# Altium footprint library Connector.PcbLib: 18 footprints (part 1 of 2)
Each footprint in its own frame and in the unit in brackets; x right, y up, seen from the top. Pads: shape width x height; smd on the part's side, far side on the other; paste and mask are expansions set on the pad; w line width, h text height; cw(c..) or ccw(c..) is an arc to the next point about the centre after c.
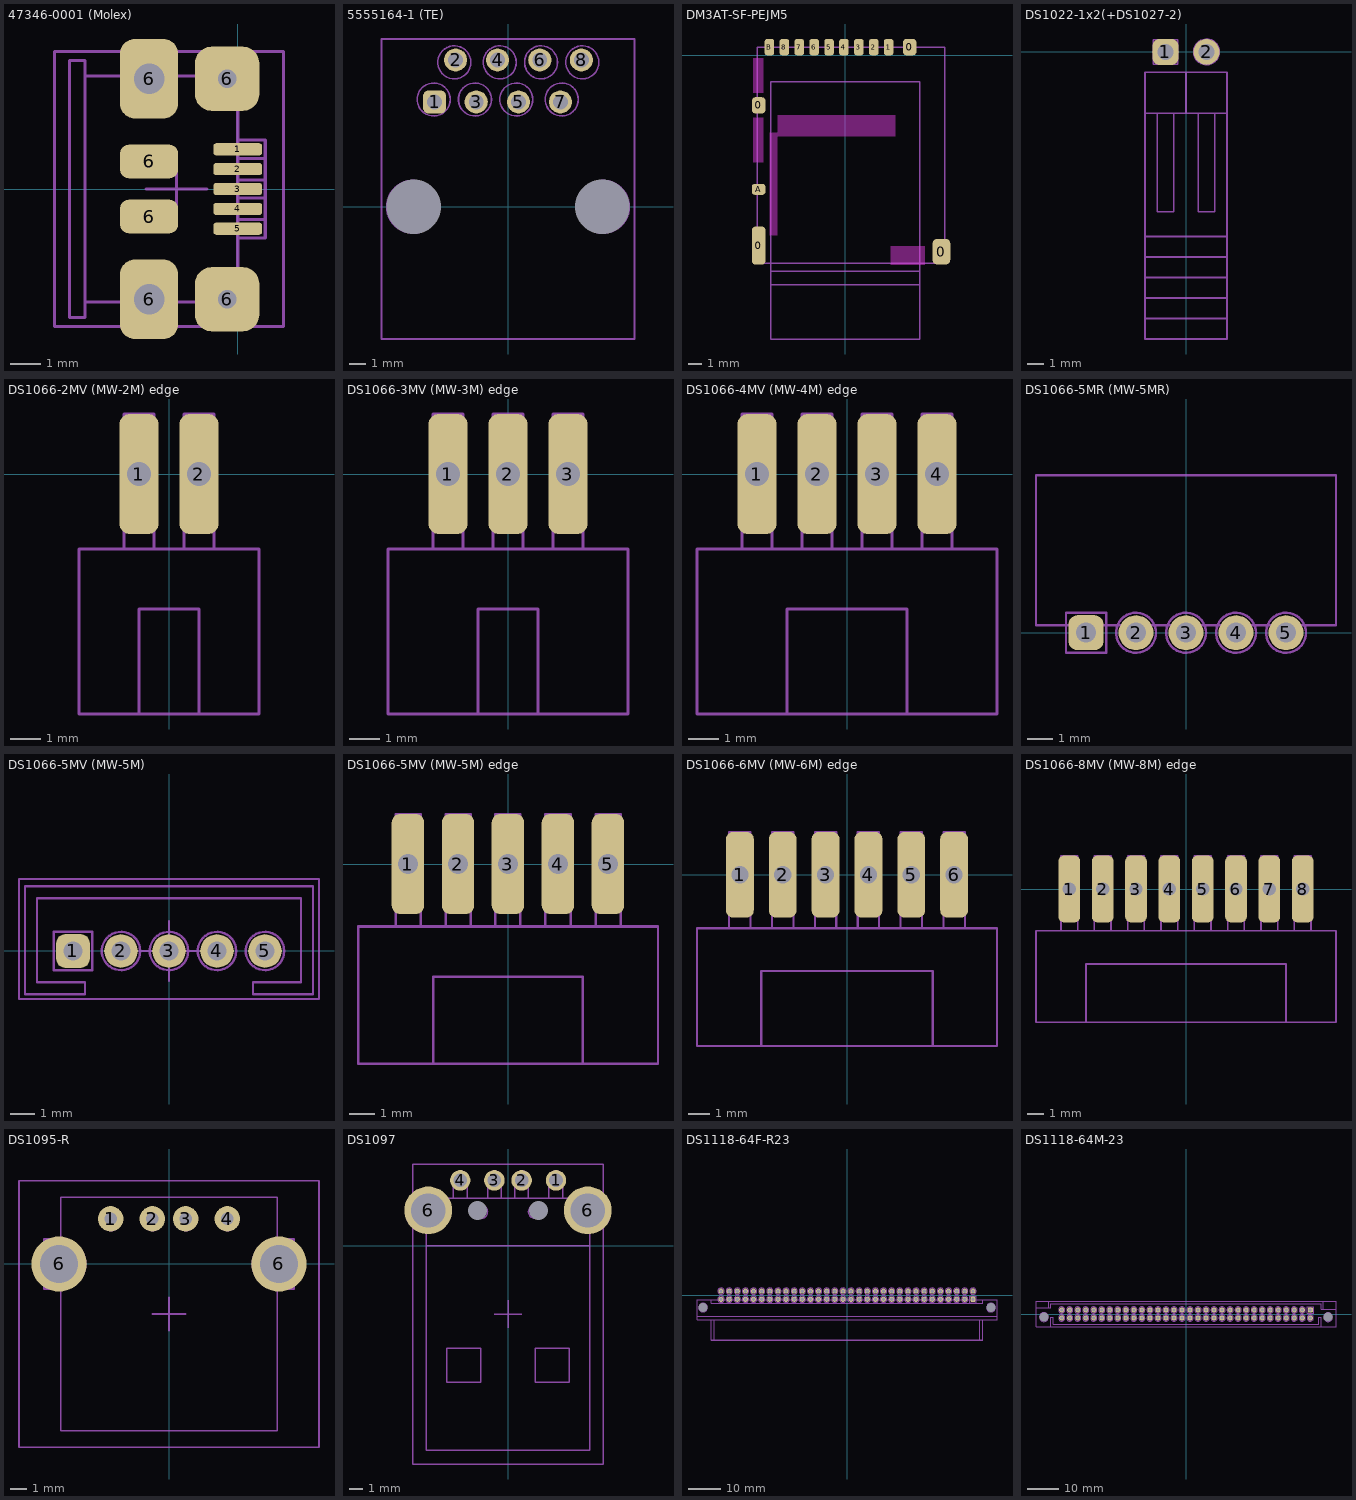
[diagram p0: the footprints below, top view; thin cyan lines are the x and y axes]

## 47346-0001 (Molex) [mm] "Micro-USB B Receptacle with Flange, Bottom Mount, Surface Mount"
pads (11):
  rrect50% 1.6x0.4 smd: 1(0,1.3) 2(0,0.65) 3(0,0) 4(0,-0.65) 5(0,-1.3)
  rrect50% 1.9x2.6 hole 1: 6(-2.9,-3.608) 6(-2.9,3.608)
  rrect50% 1.9x1.1 smd: 6(-2.9,-0.9) 6(-2.9,0.9)
  rrect50% 2.1x2.1 hole 0.6: 6(-0.346,3.608) 6(-0.346,-3.608)
Mechanical 4:
  text ".Designator" at -4,2.6 h2
Mechanical 13:
  lines w0.1: -3.4,-3.7 -3.4,-4 -2.4,-4 -2.4,-3.7 ; -3.4,3.7 -3.4,4 -2.4,4 -2.4,3.7 ; 0,-1.6 0.9,-1.6 0.9,1.6 0,1.6 ; 0,-1 0.9,-1 ; 0,-0.3 0.9,-0.3 ; 0,0.3 0.9,0.3 ; 0,1 0.9,1 ; -5,-3.7 0,-3.7 0,3.7 -5,3.7 ; -5,-3.7 -5,3.7 ; -5,-3.7 -5,-4.2 -5.5,-4.2 -5.5,4.2 -5,4.2 -5,3.7
Mechanical 15:
  lines w0.1: -3,0 -1,0 ; -2,-1 -2,1 ; -6,-4.5 -6,4.5 1.5,4.5 1.5,-4.5 -6,-4.5
3D body: height 2.67, standoff -0.27, extent -5.48,-3.99 -0.05,3.99

## 5555164-1 (TE) [mm]
pads (10):
  round 0 hole 3.3 unplated: 0(-5.7,0) 0(5.7,0)
  rrect50% 1.4x1.4 hole 0.9: 1(-4.445,6.35)
  round 1.4 hole 0.9: 2(-3.175,8.89) 3(-1.925,6.35) 4(-0.635,8.89) 5(0.635,6.35) 6(1.925,8.89) 7(3.175,6.35) 8(4.445,8.89)
Mechanical 4:
  text ".Designator" at -3.6,2.8 h2
Mechanical 13:
  lines w0.1: -7.658,-8 -7.658,10.161 7.658,10.161 7.658,-8 -7.658,-8
Mechanical 14:
  circle w0.1: c-4.5,6.5 r1
  circle w0.1: c-2,6.5 r1
  circle w0.1: c0.5,6.5 r1
  circle w0.1: c3.25,6.5 r1
  circle w0.1: c-3.25,8.75 r1
  circle w0.1: c-0.5,8.75 r1
  circle w0.1: c2,8.75 r1
  circle w0.1: c4.5,8.75 r1
  circle w0.1: c-5.75,0 r1.6
  circle w0.1: c5.75,0 r1.6
3D body: height 12.49, standoff -3.9, extent -7.658,-8 7.658,10.161

## DM3AT-SF-PEJM5 [mm]
pads (14):
  rrect50% 1x2.8 smd: 0(-6.4,-14.05)
  rrect50% 1x1.2 smd: 0(-6.4,-3.7) 0(4.75,0.6)
  rrect50% 1.3x1.9 smd: 0(7.1,-14.5)
  rrect50% 0.7x1.2 smd: 1(3.2,0.6) 2(2.1,0.6) 3(1,0.6) 4(-0.1,0.6) 5(-1.2,0.6) 6(-2.3,0.6) 7(-3.4,0.6) 8(-4.5,0.6) B(-5.6,0.6)
  rrect50% 1x0.8 smd: A(-6.4,-9.9)
Top Layer keep-out:
  rectangle: -5,-6 3.7,-4.4
  rectangle: -5.6,-13.3 -5,-5.7
  rectangle: -6.8,-7.9 -6.05,-4.6
  rectangle: -6.8,-2.8 -6.05,-0.2
  rectangle: 3.35,-15.5 5.9,-14.1
Mechanical 4:
  text ".Designator" at -4.6,-3.7 h2
Mechanical 13:
  lines w0.1: -5.5,-16.95 5.5,-16.95 ; -5.5,-15.95 5.5,-15.95 ; -6.5,-15.35 -6.5,0.6 7.35,0.6 7.35,-15.35 -6.5,-15.35 ; -5.5,-20.95 5.5,-20.95 5.5,-1.95 -5.5,-1.95 -5.5,-20.95
  text "CARD LOCKED" at -3.2,-16.8 h1
  text "CARD EJECTED" at -3.2,-20.7 h1
  text "CARD PUSHED" at -3.2,-15.7 h1
3D body: height 1.68, standoff 0, extent -6.525,-15.4 7.325,0.75

## DS1022-1x2(+DS1027-2) [mm]
pads (2):
  rrect50% 1.6x1.6 hole 1: 1(-1.27,0)
  round 1.6 hole 1: 2(1.27,0)
Mechanical 13:
  circle w0.1: c1.27,0 r0.8
  lines w0.1: -2.54,-16.51 2.54,-16.51 ; -2.54,-15.24 2.54,-15.24 ; -2.54,-13.97 2.54,-13.97 ; -2.54,-12.7 2.54,-12.7 ; -2.54,-11.43 2.54,-11.43 ; -1.778,-3.81 -1.778,-9.906 -0.762,-9.906 -0.762,-3.81 ; 0,-3.81 0,-1.27 ; 0.762,-3.81 0.762,-9.906 1.524,-9.906 1.778,-9.906 1.778,-3.81 ; -2.54,-3.81 2.54,-3.81 ; -2.54,-3.81 -2.54,-1.27 2.54,-1.27 2.54,-3.81 ; -2.54,-3.81 -2.54,-17.78 2.54,-17.78 2.54,-3.81 ; -2.032,-0.762 -0.508,-0.762 -0.508,0.762 -2.032,0.762 -2.032,-0.762
Mechanical 14:
  circle w0.1: c1.27,0 r0.8
  lines w0.1: -2.032,-0.762 -2.032,0.762 -0.508,0.762 -0.508,-0.762 -2.032,-0.762
3D body: height 2.54, standoff 0, extent -2.54,-17.78 2.54,-3.81
3D body: height 1.77, standoff 0.77, extent 0.762,-9.906 1.778,0
3D body: height 1.77, standoff 0.77, extent -1.778,-9.906 -0.762,0
3D body: height 2.54, standoff 0, extent 0,-3.81 2.54,-1.27
3D body: height 2.54, standoff 0, extent -2.54,-3.81 0,-1.27
3D body: height 1.77, standoff 0, extent -1.778,-0.508 -0.762,0.508
3D body: height 1.77, standoff 0, extent 0.762,-0.508 1.778,0.508

## DS1066-2MV (MW-2M) edge [mm]
pads (2):
  rrect50% 1.3x4 hole 0.8: 1(-1,0) 2(1,0)
Mechanical 13:
  lines w0.1: -1.5,-2.5 -1.5,2 -0.5,2 -0.5,-2.5 ; 0.5,-2.5 0.5,2 1.5,2 1.5,-2.5 ; -3,-8 3,-8 3,-2.5 -3,-2.5 -3,-8
Mechanical 14:
  lines w0.1: -1,-8 -1,-4.5 1,-4.5 1,-8 ; -3,-8 -3,-2.5 3,-2.5 3,-8 -3,-8
3D body: height 0.5, standoff 0, extent 0.75,-7.75 1.25,1
3D body: height 0.5, standoff 0, extent -1.25,-7.75 -0.75,1
3D body: height 2, standoff -1.55, extent -3,-8 -2.5,-2.5
3D body: height 2, standoff -1.55, extent 2.5,-8 3,-2.5
3D body: height -1.05, standoff -1.55, extent -3,-8 3,-2.5
3D body: height 2.45, standoff 1.95, extent -3,-8 3,-2.5
3D body: height 2, standoff -1.55, extent -3,-4.5 3,-2.5
3D body: height 2.5, standoff -1.55, extent -3,-11 3,-4.5

## DS1066-3MV (MW-3M) edge [mm]
pads (3):
  rrect50% 1.3x4 hole 0.8: 1(-2,0) 2(0,0) 3(2,0)
Mechanical 13:
  lines w0.1: -2.5,-2.5 -2.5,2 -1.5,2 -1.5,-2.5 ; -0.5,-2.5 -0.5,2 0.5,2 0.5,-2.5 ; 1.5,-2.5 1.5,2 2.5,2 2.5,-2.5 ; -4,-8 4,-8 4,-2.5 -4,-2.5 -4,-8
Mechanical 14:
  lines w0.1: -1,-8 -1,-4.5 1,-4.5 1,-8 ; -4,-8 -4,-2.5 4,-2.5 4,-8 -4,-8
3D body: height 0.5, standoff 0, extent 1.75,-7.75 2.25,1
3D body: height 0.5, standoff 0, extent -0.25,-7.75 0.25,1
3D body: height 0.5, standoff 0, extent -2.25,-7.75 -1.75,1
3D body: height 2, standoff -1.55, extent -4,-8 -3.5,-2.5
3D body: height 2, standoff -1.55, extent 3.5,-8 4,-2.5
3D body: height -1.05, standoff -1.55, extent -4,-8 3.5,-2.5
3D body: height 2.45, standoff 1.95, extent -5,-8 4,-2.5
3D body: height 2, standoff -1.55, extent -3.5,-4.5 3,-2.5
3D body: height 2.5, standoff -1.55, extent -4,-11 4,-4.5

## DS1066-4MV (MW-4M) edge [mm]
pads (4):
  rrect50% 1.3x4 hole 0.8: 1(-3,0) 2(-1,0) 3(1,0) 4(3,0)
Mechanical 13:
  lines w0.1: -3.5,-2.5 -3.5,2 -2.5,2 -2.5,-2.5 ; -1.5,-2.5 -1.5,2 -0.5,2 -0.5,-2.5 ; 0.5,-2.5 0.5,2 1.5,2 1.5,-2.5 ; 2.5,-2.5 2.5,2 3.5,2 3.5,-2.5 ; -5,-8 5,-8 5,-2.5 -5,-2.5 -5,-8
Mechanical 14:
  lines w0.1: -2,-8 -2,-4.5 2,-4.5 2,-8 ; -5,-8 -5,-2.5 5,-2.5 5,-8 -5,-8
3D body: height 0.5, standoff 0, extent 2.75,-7.75 3.25,1
3D body: height 0.5, standoff 0, extent 0.75,-7.75 1.25,1
3D body: height 0.5, standoff 0, extent -1.25,-7.75 -0.75,1
3D body: height 0.5, standoff 0, extent -3.25,-7.75 -2.75,1
3D body: height 2, standoff -1.55, extent -5,-8 -4.5,-2.5
3D body: height 2, standoff -1.55, extent 4.5,-8 5,-2.5
3D body: height -1.05, standoff -1.55, extent -5,-8 5,-2.5
3D body: height 2.45, standoff 1.95, extent -6,-8 6,-2.5
3D body: height 2, standoff -1.55, extent -5,-4.5 5,-2.5
3D body: height 2.5, standoff -1.55, extent -5,-11 5,-4.5

## DS1066-5MR (MW-5MR) [mm]
pads (5):
  rrect50% 1.4x1.4 hole 0.8: 1(-4,0)
  round 1.4 hole 0.8: 2(-2,0) 3(0,0) 4(2,0) 5(4,0)
Mechanical 13:
  lines w0.1: -6,0.3 6,0.3 6,6.3 -6,6.3 -6,0.3
Mechanical 14:
  circle w0.1: c-2,0 r0.8
  circle w0.1: c0,0 r0.8
  circle w0.1: c2,0 r0.8
  circle w0.1: c4,0 r0.8
  lines w0.1: -4.8,-0.8 -4.8,0.8 -3.2,0.8 -3.2,-0.8 -4.8,-0.8
3D body: height 3, standoff -1.5, extent -4.25,-0.2 -3.75,0.3
3D body: height 3, standoff -1.5, extent -2.25,-0.2 -1.75,0.3
3D body: height 3, standoff -1.5, extent -0.25,-0.2 0.25,0.3
3D body: height 3, standoff -1.5, extent 1.75,-0.2 2.25,0.3
3D body: height 3, standoff -1.5, extent 3.75,-0.2 4.25,0.3
3D body: height 3, standoff 2.5, extent -4.25,-0.2 -3.75,5.8
3D body: height 3, standoff 2.5, extent -2.25,-0.2 -1.75,5.8
3D body: height 3, standoff 2.5, extent -0.25,-0.2 0.25,5.8
3D body: height 3, standoff 2.5, extent 1.75,-0.2 2.25,5.8
3D body: height 3, standoff 2.5, extent 3.75,-0.2 4.25,5.8
3D body: height 3, standoff 0, extent -6,-1.2 -5,0.3
3D body: height 3, standoff 0, extent 5,-1.25 6,0.25
3D body: height 4.5, standoff 0, extent -6,2.3 6,8.8
3D body: height 4, standoff 0.5, extent -5.5,0.3 6,2.3
3D body: height 0.5, standoff 0, extent -6,0.3 6,6.3
3D body: height 4.5, standoff 4, extent -6,0.3 6,6.3
3D body: height 4, standoff 0.5, extent -6,0.3 -5.5,6.3
3D body: height 4, standoff 0.5, extent 5.5,0.3 6,6.3

## DS1066-5MV (MW-5M) [mm] "Connector, pitch 2mm, 5 pos"
height 6
pads (5):
  rrect50% 1.4x1.4 hole 0.8: 1(-4,0)
  round 1.4 hole 0.8: 2(-2,0) 3(0,0) 4(2,0) 5(4,0)
Mechanical 4:
  text ".Designator" at -4.3,1 h2
Mechanical 13:
  circle w0.1: c-2,0 r0.8
  circle w0.1: c0,0 r0.8
  circle w0.1: c2,0 r0.8
  circle w0.1: c4,0 r0.8
  lines w0.1: -6,-1.8 -3.5,-1.8 -3.5,-1.3 -5.5,-1.3 -5.5,2.2 5.5,2.2 5.5,-1.3 3.5,-1.3 3.5,-1.8 6,-1.8 6,2.7 -6,2.7 -6,-1.8 ; -4.8,-0.8 -4.8,0.8 -3.2,0.8 -3.2,-0.8 -4.8,-0.8
Mechanical 14:
  circle w0.1: c-2,0 r0.8
  circle w0.1: c0,0 r0.8
  circle w0.1: c2,0 r0.8
  circle w0.1: c4,0 r0.8
  lines w0.1: -4.8,-0.8 -3.2,-0.8 -3.2,0.8 -4.8,0.8 -4.8,-0.8
Mechanical 15:
  lines w0.1: -1.25,0 1.25,0 ; 0,-1.25 0,1.25 ; -6.25,-2 -6.25,3 6.25,3 6.25,-2 -6.25,-2
3D body: height 1, standoff 0, extent -6,-1.8 6,2.7
3D body: height 6, standoff 0, extent -6,-1.8 6,2.7
3D body: height 5, standoff -2, extent -4.25,-0.25 -3.75,0.25
3D body: height 5, standoff -2, extent -2.25,-0.25 -1.75,0.25
3D body: height 5, standoff -2, extent -0.25,-0.25 0.25,0.25
3D body: height 5, standoff -2, extent 1.75,-0.25 2.25,0.25
3D body: height 5, standoff -2, extent 3.75,-0.25 4.25,0.25
3D body: height 8.5, standoff 6, extent -6,-1.8 6,2.7

## DS1066-5MV (MW-5M) edge [mm]
pads (5):
  rrect50% 1.3x4 hole 0.8: 1(-4,0) 2(-2,0) 3(0,0) 4(2,0) 5(4,0)
Mechanical 13:
  lines w0.1: -4.5,-2.5 -4.5,2 -3.5,2 -3.5,-2.5 ; -2.5,-2.5 -2.5,2 -1.5,2 -1.5,-2.5 ; -0.5,-2.5 -0.5,2 0.5,2 0.5,-2.5 ; 1.5,-2.5 1.5,2 2.5,2 2.5,-2.5 ; 3.5,-2.5 3.5,2 4.5,2 4.5,-2.5 ; -6,-8 -6,-2.5 6,-2.5 6,-8 -6,-8
Mechanical 14:
  lines w0.1: -3,-8 -3,-4.5 3,-4.5 3,-8 ; -6,-8 6,-8 6,-2.5 -6,-2.5 -6,-8
3D body: height 2.5, standoff -1.55, extent -6,-11 6,-4.5
3D body: height 2, standoff -1.55, extent -5.5,-4.5 5.5,-2.5
3D body: height 2.45, standoff 1.95, extent -6,-8 6,-2.5
3D body: height -1.05, standoff -1.55, extent -6,-8 6,-2.5
3D body: height 2, standoff -1.55, extent 5.5,-8 6,-2.5
3D body: height 2, standoff -1.55, extent -6,-8 -5.5,-2.5
3D body: height 0.5, standoff 0, extent -4.25,-7.75 -3.75,1
3D body: height 0.5, standoff 0, extent -2.25,-7.75 -1.75,1
3D body: height 0.5, standoff 0, extent -0.25,-7.75 0.25,1
3D body: height 0.5, standoff 0, extent 1.75,-7.75 2.25,1
3D body: height 0.5, standoff 0, extent 3.75,-7.75 4.25,1

## DS1066-6MV (MW-6M) edge [mm]
pads (6):
  rrect50% 1.3x4 hole 0.8: 1(-5,0) 2(-3,0) 3(-1,0) 4(1,0) 5(3,0) 6(5,0)
Mechanical 13:
  lines w0.1: -5.5,-2.5 -5.5,2 -4.5,2 -4.5,-2.5 ; -3.5,-2.5 -3.5,2 -2.5,2 -2.5,-2.5 ; -1.5,-2.5 -1.5,2 -0.5,2 -0.5,-2.5 ; 0.5,-2.5 0.5,2 1.5,2 1.5,-2.5 ; 2.5,-2.5 2.5,2 3.5,2 3.5,-2.5 ; 4.5,-2.5 4.5,2 5.5,2 5.5,-2.5 ; -7,-8 -7,-2.5 7,-2.5 7,-8 -7,-8
Mechanical 14:
  lines w0.1: -4,-8 -4,-4.5 4,-4.5 4,-8 ; -7,-8 7,-8 7,-2.5 -7,-2.5 -7,-8
3D body: height 2.5, standoff -1.55, extent -7,-11 7,-4.5
3D body: height 2, standoff -1.55, extent -6.5,-4.5 6.5,-2.5
3D body: height 2.45, standoff 1.95, extent -7,-8 7,-2.5
3D body: height -1.05, standoff -1.55, extent -7,-8 7,-2.5
3D body: height 2, standoff -1.55, extent 6.5,-8 7,-2.5
3D body: height 2, standoff -1.55, extent -7,-8 -6.5,-2.5
3D body: height 0.5, standoff 0, extent -5.25,-7.75 -4.75,1
3D body: height 0.5, standoff 0, extent -3.25,-7.75 -2.75,1
3D body: height 0.5, standoff 0, extent -1.25,-7.75 -0.75,1
3D body: height 0.5, standoff 0, extent 0.75,-7.75 1.25,1
3D body: height 0.5, standoff 0, extent 2.75,-7.75 3.25,1
3D body: height 0.5, standoff 0, extent 4.75,-7.75 5.25,1

## DS1066-8MV (MW-8M) edge [mm]
pads (8):
  rrect50% 1.3x4 hole 0.8: 1(-7,0) 2(-5,0) 3(-3,0) 4(-1,0) 5(1,0) 6(3,0) 7(5,0) 8(7,0)
Mechanical 13:
  lines w0.1: -9,-2.5 -9,-8 ; -9,-2.5 9,-2.5 9,-8 -9,-8 ; -7.5,-2.5 -7.5,2 -6.5,2 -6.5,-2.5 ; -5.5,-2.5 -5.5,2 -4.5,2 -4.5,-2.5 ; -3.5,-2.5 -3.5,2 -2.5,2 -2.5,-2.5 ; -1.5,-2.5 -1.5,2 -0.5,2 -0.5,-2.5 ; 0.5,-2.5 0.5,2 1.5,2 1.5,-2.5 ; 2.5,-2.5 2.5,2 3.5,2 3.5,-2.5 ; 4.5,-2.5 4.5,2 5.5,2 5.5,-2.5 ; 6.5,-2.5 6.5,2 7.5,2 7.5,-2.5 ; -9,-8 -9,-8
Mechanical 14:
  lines w0.1: -6,-8 -6,-4.5 6,-4.5 6,-8 ; -9,-8 9,-8 9,-2.5 -9,-2.5 -9,-8
3D body: height 2.5, standoff -1.55, extent -9,-11 9,-4.5
3D body: height 2, standoff -1.55, extent -8.5,-4.5 8.5,-2.5
3D body: height 2.45, standoff 1.95, extent -9,-8 9,-2.5
3D body: height -1.05, standoff -1.55, extent -9,-8 9,-2.5
3D body: height 2, standoff -1.55, extent 8.5,-8 9,-2.5
3D body: height 2, standoff -1.55, extent -9,-8 -8.5,-2.5
3D body: height 0.5, standoff 0, extent -7.25,-7.75 -6.75,1
3D body: height 0.5, standoff 0, extent -5.25,-7.75 -4.75,1
3D body: height 0.5, standoff 0, extent -3.25,-7.75 -2.75,1
3D body: height 0.5, standoff 0, extent -1.25,-7.75 -0.75,1
3D body: height 0.5, standoff 0, extent 0.75,-7.75 1.25,1
3D body: height 0.5, standoff 0, extent 2.75,-7.75 3.25,1
3D body: height 0.5, standoff 0, extent 4.75,-7.75 5.25,1
3D body: height 0.5, standoff 0, extent 6.75,-7.75 7.25,1

## DS1095-R [mm]
pads (6):
  round 1.524 hole 0.762: 1(-3.5,2.71) 2(-1,2.71) 3(1,2.71) 4(3.5,2.71)
  round 3.3 hole 2.3: 6(-6.6,0) 6(6.6,0)
Mechanical 4:
  text ".Designator" at -3,-5 h1
Mechanical 13:
  lines w0.1: -6.5,-1.5 -7.5,-1.5 -7.5,1.5 -6.5,1.5 ; 6.5,-1.5 7.5,-1.5 7.5,1.5 6.5,1.5 ; -6.5,-10 6.5,-10 6.5,4 -6.5,4 -6.5,-10
Mechanical 14:
  circle w0.1: c6.5,0 r1.5
  circle w0.1: c-6.5,0 r1.5
  circle w0.1: c3.5,2.5 r0.5
  circle w0.1: c1,2.5 r0.5
  circle w0.1: c-1,2.5 r0.5
  circle w0.1: c-3.5,2.5 r0.5
  lines w0.1: -6.5,-8 -6.5,-10 6.5,-10 6.5,-8
Mechanical 15:
  lines w0.1: -1,-3 1,-3 ; 0,-4 0,-2 ; -9,-11 -9,5 9,5 9,-11 -9,-11
3D body: height 7.4, standoff -3.45, extent -7.9,-10.425 7.9,4.075

## DS1097 [mm]
pads (8):
  round 0 hole 1.4: 0(-2.25,2.6) 0(2.25,2.6)
  round 1.5 hole 1: 1(3.52,4.8) 2(1,4.8) 3(-1,4.8) 4(-3.5,4.8)
  round 3.5 hole 2.5: 6(-5.85,2.6) 6(5.85,2.6)
Mechanical 4:
  text ".Designator" at -2,-5 h1
Mechanical 13:
  lines w0.1: -6,0 6,0 ; -4,3.5 -4,5 -3,5 -3,3.5 ; -1.5,3.5 -1.5,5 -0.5,5 -0.5,3.5 0.5,3.5 0.5,5 1.5,5 1.5,3.5 ; 3,3.5 3,5 4,5 4,3.5 ; -6,-15 6,-15 6,3.5 -6,3.5 -6,-15 ; -4.5,-10 -4.5,-7.5 -2,-7.5 -2,-10 -4.5,-10 ; 2,-10 4.5,-10 4.5,-7.5 2,-7.5 2,-10
Mechanical 14:
  circle w0.1: c-6,2.5 r1.5
  circle w0.1: c6,2.5 r1.5
  circle w0.1: c-3.5,5 r0.5
  circle w0.1: c-1,5 r0.5
  circle w0.1: c1,5 r0.5
  circle w0.1: c3.5,5 r0.5
  circle w0.1: c-2,2.5 r0.5
  circle w0.1: c2,2.5 r0.5
  lines w0.1: -6,-15 -6,0 6,0 6,-15 -6,-15
Mechanical 15:
  lines w0.1: -1,-5 1,-5 ; 0,-6 0,-4 ; -7,-16 7,-16 7,6 -7,6 -7,-16
3D body: height 3.1, standoff -2.7, extent -6.306,-15.012 6.3,4.912

## DS1118-64F-R23 [mm]
pads (66):
  round 0 hole 2.8 unplated: 0(-45,-3.87) 0(45,-3.87)
  rrect50% 1.6x1.6 hole 1: a1(39.37,-1.27)
  round 1.6 hole 1: a2(36.83,-1.27) a3(34.29,-1.27) a4(31.75,-1.27) a5(29.21,-1.27) a6(26.67,-1.27) a7(24.13,-1.27) a8(21.59,-1.27) a9(19.05,-1.27) a10(16.51,-1.27) a11(13.97,-1.27) a12(11.43,-1.27) a13(8.89,-1.27) a14(6.35,-1.27) a15(3.81,-1.27) a16(1.27,-1.27) a17(-1.27,-1.27) a18(-3.81,-1.27) a19(-6.35,-1.27) a20(-8.89,-1.27) a21(-11.43,-1.27) a22(-13.97,-1.27) a23(-16.51,-1.27) a24(-19.05,-1.27) a25(-21.59,-1.27) a26(-24.13,-1.27) a27(-26.67,-1.27) a28(-29.21,-1.27) a29(-31.75,-1.27) a30(-34.29,-1.27) a31(-36.83,-1.27) a32(-39.37,-1.27) b1(39.37,1.27) b2(36.83,1.27) b3(34.29,1.27) b4(31.75,1.27) b5(29.21,1.27) b6(26.67,1.27) b7(24.13,1.27) b8(21.59,1.27) b9(19.05,1.27) b10(16.51,1.27) b11(13.97,1.27) b12(11.43,1.27) b13(8.89,1.27) b14(6.35,1.27) b15(3.81,1.27) b16(1.27,1.27) b17(-1.27,1.27) b18(-3.81,1.27) b19(-6.35,1.27) b20(-8.89,1.27) b21(-11.43,1.27) b22(-13.97,1.27) b23(-16.51,1.27) b24(-19.05,1.27) b25(-21.59,1.27) b26(-24.13,1.27) b27(-26.67,1.27) b28(-29.21,1.27) b29(-31.75,1.27) b30(-34.29,1.27) b31(-36.83,1.27) b32(-39.37,1.27)
Mechanical 4:
  text ".Designator" at -12.8,-5.6 h2
Mechanical 13:
  circle w0.1: c34.29,1.27 r1
  circle w0.1: c34.29,-1.27 r1
  circle w0.1: c31.75,-1.27 r1
  circle w0.1: c31.75,1.27 r1
  circle w0.1: c39.37,1.27 r1
  circle w0.1: c36.83,-1.27 r1
  circle w0.1: c36.83,1.27 r1
  circle w0.1: c24.13,1.27 r1
  circle w0.1: c24.13,-1.27 r1
  circle w0.1: c21.59,-1.27 r1
  circle w0.1: c21.59,1.27 r1
  circle w0.1: c29.21,1.27 r1
  circle w0.1: c29.21,-1.27 r1
  circle w0.1: c26.67,-1.27 r1
  circle w0.1: c26.67,1.27 r1
  circle w0.1: c13.97,1.27 r1
  circle w0.1: c13.97,-1.27 r1
  circle w0.1: c11.43,-1.27 r1
  circle w0.1: c11.43,1.27 r1
  circle w0.1: c19.05,1.27 r1
  circle w0.1: c19.05,-1.27 r1
  circle w0.1: c16.51,-1.27 r1
  circle w0.1: c16.51,1.27 r1
  circle w0.1: c3.81,1.27 r1
  circle w0.1: c3.81,-1.27 r1
  circle w0.1: c1.27,-1.27 r1
  circle w0.1: c1.27,1.27 r1
  circle w0.1: c8.89,1.27 r1
  circle w0.1: c8.89,-1.27 r1
  circle w0.1: c6.35,-1.27 r1
  circle w0.1: c6.35,1.27 r1
  circle w0.1: c-3.81,1.27 r1
  circle w0.1: c-3.81,-1.27 r1
  circle w0.1: c-1.27,-1.27 r1
  circle w0.1: c-1.27,1.27 r1
  circle w0.1: c-8.89,1.27 r1
  circle w0.1: c-8.89,-1.27 r1
  circle w0.1: c-6.35,-1.27 r1
  circle w0.1: c-6.35,1.27 r1
  circle w0.1: c-13.97,1.27 r1
  circle w0.1: c-13.97,-1.27 r1
  circle w0.1: c-11.43,-1.27 r1
  circle w0.1: c-11.43,1.27 r1
  circle w0.1: c-19.05,1.27 r1
  circle w0.1: c-19.05,-1.27 r1
  circle w0.1: c-16.51,-1.27 r1
  circle w0.1: c-16.51,1.27 r1
  circle w0.1: c-24.13,1.27 r1
  circle w0.1: c-24.13,-1.27 r1
  circle w0.1: c-21.59,-1.27 r1
  circle w0.1: c-21.59,1.27 r1
  circle w0.1: c-29.21,1.27 r1
  circle w0.1: c-29.21,-1.27 r1
  circle w0.1: c-26.67,-1.27 r1
  circle w0.1: c-26.67,1.27 r1
  circle w0.1: c-34.29,1.27 r1
  circle w0.1: c-34.29,-1.27 r1
  circle w0.1: c-31.75,-1.27 r1
  circle w0.1: c-31.75,1.27 r1
  circle w0.1: c-36.83,1.27 r1
  circle w0.1: c-36.83,-1.27 r1
  circle w0.1: c-39.37,-1.27 r1
  circle w0.1: c-39.37,1.27 r1
  lines w0.1: -46.9,-6.5 46.9,-6.5 ; -42.5,-7.67 -42.5,-13.97 42.5,-13.97 42.5,-7.67 ; -42.5,-1.5 -42.5,-2.5 42.5,-2.5 42.5,-1.47 ; -41.45,-13.97 -41.45,-7.67 ; 41.45,-13.97 41.45,-7.67 ; -46.9,-7.67 -46.9,-1.47 46.9,-1.47 46.9,-7.67 -46.9,-7.67 ; 38.354,-2.286 38.354,-0.254 40.386,-0.254 40.386,-2.286 38.354,-2.286
Mechanical 14:
  circle w0.1: c-39.37,1.27 r1
  circle w0.1: c-39.37,-1.27 r1
  circle w0.1: c-36.83,-1.27 r1
  circle w0.1: c-36.83,1.27 r1
  circle w0.1: c-31.75,1.27 r1
  circle w0.1: c-31.75,-1.27 r1
  circle w0.1: c-34.29,-1.27 r1
  circle w0.1: c-34.29,1.27 r1
  circle w0.1: c-26.67,1.27 r1
  circle w0.1: c-26.67,-1.27 r1
  circle w0.1: c-29.21,-1.27 r1
  circle w0.1: c-29.21,1.27 r1
  circle w0.1: c-21.59,1.27 r1
  circle w0.1: c-21.59,-1.27 r1
  circle w0.1: c-24.13,-1.27 r1
  circle w0.1: c-24.13,1.27 r1
  circle w0.1: c-16.51,1.27 r1
  circle w0.1: c-16.51,-1.27 r1
  circle w0.1: c-19.05,-1.27 r1
  circle w0.1: c-19.05,1.27 r1
  circle w0.1: c-11.43,1.27 r1
  circle w0.1: c-11.43,-1.27 r1
  circle w0.1: c-13.97,-1.27 r1
  circle w0.1: c-13.97,1.27 r1
  circle w0.1: c-6.35,1.27 r1
  circle w0.1: c-6.35,-1.27 r1
  circle w0.1: c-8.89,-1.27 r1
  circle w0.1: c-8.89,1.27 r1
  circle w0.1: c-1.27,1.27 r1
  circle w0.1: c-1.27,-1.27 r1
  circle w0.1: c-3.81,-1.27 r1
  circle w0.1: c-3.81,1.27 r1
  circle w0.1: c6.35,1.27 r1
  circle w0.1: c6.35,-1.27 r1
  circle w0.1: c8.89,-1.27 r1
  circle w0.1: c8.89,1.27 r1
  circle w0.1: c1.27,1.27 r1
  circle w0.1: c1.27,-1.27 r1
  circle w0.1: c3.81,-1.27 r1
  circle w0.1: c3.81,1.27 r1
  circle w0.1: c16.51,1.27 r1
  circle w0.1: c16.51,-1.27 r1
  circle w0.1: c19.05,-1.27 r1
  circle w0.1: c19.05,1.27 r1
  circle w0.1: c11.43,1.27 r1
  circle w0.1: c11.43,-1.27 r1
  circle w0.1: c13.97,-1.27 r1
  circle w0.1: c13.97,1.27 r1
  circle w0.1: c26.67,1.27 r1
  circle w0.1: c26.67,-1.27 r1
  circle w0.1: c29.21,-1.27 r1
  circle w0.1: c29.21,1.27 r1
  circle w0.1: c21.59,1.27 r1
  circle w0.1: c21.59,-1.27 r1
  circle w0.1: c24.13,-1.27 r1
  circle w0.1: c24.13,1.27 r1
  circle w0.1: c36.83,1.27 r1
  circle w0.1: c36.83,-1.27 r1
  circle w0.1: c39.37,1.27 r1
  circle w0.1: c31.75,1.27 r1
  circle w0.1: c31.75,-1.27 r1
  circle w0.1: c34.29,-1.27 r1
  circle w0.1: c34.29,1.27 r1
  circle w0.1: c45,-3.87 r1.37
  circle w0.1: c-45,-3.87 r1.37
  lines w0.1: -42.5,-7.7 -42.5,-14 42.5,-14 42.5,-7.7 ; -46.9,-7.7 -46.9,-6.5 46.9,-6.5 46.9,-7.7 -46.9,-7.7 ; 38.354,-2.286 40.386,-2.286 40.386,-0.254 38.354,-0.254 38.354,-2.286
3D body: height 6, standoff 0, extent -46.9,-7.67 46.9,-1.47
3D body: height 3, standoff 0, extent -42.5,-13.97 42.5,-7.67
3D body: height 6, standoff 3, extent -41.45,-13.97 41.45,-7.67
3D body: height 7, standoff -1, extent -46.9,-7.67 46.9,-6.5

## DS1118-64M-23 [mm]
pads (66):
  round 0 hole 2.8 unplated: 0(-45,-0.97) 0(45,-0.97)
  rrect50% 1.6x1.6 hole 1: a1(39.37,1.27)
  round 1.6 hole 1: a2(36.83,1.27) a3(34.29,1.27) a4(31.75,1.27) a5(29.21,1.27) a6(26.67,1.27) a7(24.13,1.27) a8(21.59,1.27) a9(19.05,1.27) a10(16.51,1.27) a11(13.97,1.27) a12(11.43,1.27) a13(8.89,1.27) a14(6.35,1.27) a15(3.81,1.27) a16(1.27,1.27) a17(-1.27,1.27) a18(-3.81,1.27) a19(-6.35,1.27) a20(-8.89,1.27) a21(-11.43,1.27) a22(-13.97,1.27) a23(-16.51,1.27) a24(-19.05,1.27) a25(-21.59,1.27) a26(-24.13,1.27) a27(-26.67,1.27) a28(-29.21,1.27) a29(-31.75,1.27) a30(-34.29,1.27) a31(-36.83,1.27) a32(-39.37,1.27) b1(39.37,-1.27) b2(36.83,-1.27) b3(34.29,-1.27) b4(31.75,-1.27) b5(29.21,-1.27) b6(26.67,-1.27) b7(24.13,-1.27) b8(21.59,-1.27) b9(19.05,-1.27) b10(16.51,-1.27) b11(13.97,-1.27) b12(11.43,-1.27) b13(8.89,-1.27) b14(6.35,-1.27) b15(3.81,-1.27) b16(1.27,-1.27) b17(-1.27,-1.27) b18(-3.81,-1.27) b19(-6.35,-1.27) b20(-8.89,-1.27) b21(-11.43,-1.27) b22(-13.97,-1.27) b23(-16.51,-1.27) b24(-19.05,-1.27) b25(-21.59,-1.27) b26(-24.13,-1.27) b27(-26.67,-1.27) b28(-29.21,-1.27) b29(-31.75,-1.27) b30(-34.29,-1.27) b31(-36.83,-1.27) b32(-39.37,-1.27)
Mechanical 4:
  text ".Designator" at -12.4,1.7 h2
Mechanical 13:
  circle w0.1: c-39.37,1.27 r0.5
  circle w0.1: c-39.37,-1.27 r0.5
  circle w0.1: c-36.83,1.27 r0.5
  circle w0.1: c-36.83,-1.27 r0.5
  circle w0.1: c-31.75,-1.27 r0.5
  circle w0.1: c-31.75,1.27 r0.5
  circle w0.1: c-34.29,-1.27 r0.5
  circle w0.1: c-34.29,1.27 r0.5
  circle w0.1: c-26.67,-1.27 r0.5
  circle w0.1: c-26.67,1.27 r0.5
  circle w0.1: c-29.21,-1.27 r0.5
  circle w0.1: c-29.21,1.27 r0.5
  circle w0.1: c-21.59,-1.27 r0.5
  circle w0.1: c-21.59,1.27 r0.5
  circle w0.1: c-24.13,-1.27 r0.5
  circle w0.1: c-24.13,1.27 r0.5
  circle w0.1: c-16.51,-1.27 r0.5
  circle w0.1: c-16.51,1.27 r0.5
  circle w0.1: c-19.05,-1.27 r0.5
  circle w0.1: c-19.05,1.27 r0.5
  circle w0.1: c-11.43,-1.27 r0.5
  circle w0.1: c-11.43,1.27 r0.5
  circle w0.1: c-13.97,-1.27 r0.5
  circle w0.1: c-13.97,1.27 r0.5
  circle w0.1: c-6.35,-1.27 r0.5
  circle w0.1: c-6.35,1.27 r0.5
  circle w0.1: c-8.89,-1.27 r0.5
  circle w0.1: c-8.89,1.27 r0.5
  circle w0.1: c-1.27,-1.27 r0.5
  circle w0.1: c-1.27,1.27 r0.5
  circle w0.1: c-3.81,-1.27 r0.5
  circle w0.1: c-3.81,1.27 r0.5
  circle w0.1: c3.81,-1.27 r0.5
  circle w0.1: c3.81,1.27 r0.5
  circle w0.1: c1.27,-1.27 r0.5
  circle w0.1: c1.27,1.27 r0.5
  circle w0.1: c8.89,-1.27 r0.5
  circle w0.1: c8.89,1.27 r0.5
  circle w0.1: c6.35,-1.27 r0.5
  circle w0.1: c6.35,1.27 r0.5
  circle w0.1: c13.97,-1.27 r0.5
  circle w0.1: c13.97,1.27 r0.5
  circle w0.1: c11.43,-1.27 r0.5
  circle w0.1: c11.43,1.27 r0.5
  circle w0.1: c19.05,-1.27 r0.5
  circle w0.1: c19.05,1.27 r0.5
  circle w0.1: c16.51,-1.27 r0.5
  circle w0.1: c16.51,1.27 r0.5
  circle w0.1: c24.13,-1.27 r0.5
  circle w0.1: c24.13,1.27 r0.5
  circle w0.1: c21.59,-1.27 r0.5
  circle w0.1: c21.59,1.27 r0.5
  circle w0.1: c29.21,-1.27 r0.5
  circle w0.1: c29.21,1.27 r0.5
  circle w0.1: c26.67,-1.27 r0.5
  circle w0.1: c26.67,1.27 r0.5
  circle w0.1: c34.29,-1.27 r0.5
  circle w0.1: c34.29,1.27 r0.5
  circle w0.1: c31.75,-1.27 r0.5
  circle w0.1: c31.75,1.27 r0.5
  circle w0.1: c39.37,-1.27 r0.5
  circle w0.1: c39.37,1.27 r0.5
  circle w0.1: c36.83,-1.27 r0.5
  circle w0.1: c36.83,1.27 r0.5
  lines w0.1: -47.5,2 -43.5,2 ; -43.5,4 -43.5,2 ; -42.8,-4 -42.8,-1 -42,-1 -42,-3.2 42,-3.2 42,-1 42.8,-1 42.8,-4 ; 43.5,4 43.5,1.5 ; 47.5,1.5 43.5,1.5 ; -43.5,2 -42.8,2 -42.8,3.2 42.8,3.2 42.8,1.5 43.5,1.5 ; -47.5,-4 47.5,-4 47.5,4 -47.5,4 -47.5,-4
Mechanical 14:
  circle w0.1: c45,-1 r1.4
  circle w0.1: c-45,-1 r1.4
  circle w0.1: c-39.37,1.27 r1
  circle w0.1: c-39.37,-1.27 r1
  circle w0.1: c-36.83,1.27 r1
  circle w0.1: c-36.83,-1.27 r1
  circle w0.1: c-31.75,-1.27 r1
  circle w0.1: c-31.75,1.27 r1
  circle w0.1: c-34.29,-1.27 r1
  circle w0.1: c-34.29,1.27 r1
  circle w0.1: c-24.13,1.27 r1
  circle w0.1: c-24.13,-1.27 r1
  circle w0.1: c-21.59,1.27 r1
  circle w0.1: c-21.59,-1.27 r1
  circle w0.1: c-26.67,-1.27 r1
  circle w0.1: c-26.67,1.27 r1
  circle w0.1: c-29.21,-1.27 r1
  circle w0.1: c-29.21,1.27 r1
  circle w0.1: c-8.89,1.27 r1
  circle w0.1: c-8.89,-1.27 r1
  circle w0.1: c-6.35,1.27 r1
  circle w0.1: c-6.35,-1.27 r1
  circle w0.1: c-1.27,-1.27 r1
  circle w0.1: c-1.27,1.27 r1
  circle w0.1: c-3.81,-1.27 r1
  circle w0.1: c-3.81,1.27 r1
  circle w0.1: c-13.97,1.27 r1
  circle w0.1: c-13.97,-1.27 r1
  circle w0.1: c-11.43,1.27 r1
  circle w0.1: c-11.43,-1.27 r1
  circle w0.1: c-16.51,-1.27 r1
  circle w0.1: c-16.51,1.27 r1
  circle w0.1: c-19.05,-1.27 r1
  circle w0.1: c-19.05,1.27 r1
  circle w0.1: c11.43,1.27 r1
  circle w0.1: c11.43,-1.27 r1
  circle w0.1: c13.97,1.27 r1
  circle w0.1: c13.97,-1.27 r1
  circle w0.1: c19.05,-1.27 r1
  circle w0.1: c19.05,1.27 r1
  circle w0.1: c16.51,-1.27 r1
  circle w0.1: c16.51,1.27 r1
  circle w0.1: c6.35,1.27 r1
  circle w0.1: c6.35,-1.27 r1
  circle w0.1: c8.89,1.27 r1
  circle w0.1: c8.89,-1.27 r1
  circle w0.1: c3.81,-1.27 r1
  circle w0.1: c3.81,1.27 r1
  circle w0.1: c1.27,-1.27 r1
  circle w0.1: c1.27,1.27 r1
  circle w0.1: c31.75,1.27 r1
  circle w0.1: c31.75,-1.27 r1
  circle w0.1: c34.29,1.27 r1
  circle w0.1: c34.29,-1.27 r1
  circle w0.1: c39.37,-1.27 r1
  circle w0.1: c36.83,-1.27 r1
  circle w0.1: c36.83,1.27 r1
  circle w0.1: c26.67,1.27 r1
  circle w0.1: c26.67,-1.27 r1
  circle w0.1: c29.21,1.27 r1
  circle w0.1: c29.21,-1.27 r1
  circle w0.1: c24.13,-1.27 r1
  circle w0.1: c24.13,1.27 r1
  circle w0.1: c21.59,-1.27 r1
  circle w0.1: c21.59,1.27 r1
  lines w0.1: 38.354,0.254 38.354,2.286 40.386,2.286 40.386,0.254 38.354,0.254
3D body: height 4.7, standoff 0, extent -42.8,-4 42.8,3.2
3D body: height 4.7, standoff 0, extent 43.5,1.5 47.5,4
3D body: height 4.7, standoff 0, extent -47.5,2 -43.5,4
3D body: height 2.8, standoff 0, extent 45,-4 47.5,4
3D body: height 2.8, standoff 0, extent -45,-4 45,4
3D body: height 2.8, standoff 0, extent -47.5,-4 -45,4
3D body: height 11.3, standoff 0, extent -42.8,-4 42.8,-1
3D body: height 11.3, standoff 0, extent -43.5,1.5 43.5,4
3D body: height 10, standoff -4.5, extent 33.909,0.889 34.671,1.651
3D body: height 10, standoff -4.5, extent 33.909,-1.651 34.671,-0.889
3D body: height 10, standoff -4.5, extent 31.369,-1.651 32.131,-0.889
3D body: height 10, standoff -4.5, extent 31.369,0.889 32.131,1.651
3D body: height 10, standoff -4.5, extent 38.989,0.889 39.751,1.651
3D body: height 10, standoff -4.5, extent 38.989,-1.651 39.751,-0.889
3D body: height 10, standoff -4.5, extent 36.449,-1.651 37.211,-0.889
3D body: height 10, standoff -4.5, extent 36.449,0.889 37.211,1.651
3D body: height 10, standoff -4.5, extent 23.749,0.889 24.511,1.651
3D body: height 10, standoff -4.5, extent 23.749,-1.651 24.511,-0.889
3D body: height 10, standoff -4.5, extent 21.209,-1.651 21.971,-0.889
3D body: height 10, standoff -4.5, extent 21.209,0.889 21.971,1.651
3D body: height 10, standoff -4.5, extent 28.829,0.889 29.591,1.651
3D body: height 10, standoff -4.5, extent 28.829,-1.651 29.591,-0.889
3D body: height 10, standoff -4.5, extent 26.289,-1.651 27.051,-0.889
3D body: height 10, standoff -4.5, extent 26.289,0.889 27.051,1.651
3D body: height 10, standoff -4.5, extent 13.589,0.889 14.351,1.651
3D body: height 10, standoff -4.5, extent 13.589,-1.651 14.351,-0.889
3D body: height 10, standoff -4.5, extent 11.049,-1.651 11.811,-0.889
3D body: height 10, standoff -4.5, extent 11.049,0.889 11.811,1.651
3D body: height 10, standoff -4.5, extent 18.669,0.889 19.431,1.651
3D body: height 10, standoff -4.5, extent 18.669,-1.651 19.431,-0.889
3D body: height 10, standoff -4.5, extent 16.129,-1.651 16.891,-0.889
3D body: height 10, standoff -4.5, extent 16.129,0.889 16.891,1.651
3D body: height 10, standoff -4.5, extent 3.429,0.889 4.191,1.651
3D body: height 10, standoff -4.5, extent 3.429,-1.651 4.191,-0.889
3D body: height 10, standoff -4.5, extent 0.889,-1.651 1.651,-0.889
3D body: height 10, standoff -4.5, extent 0.889,0.889 1.651,1.651
3D body: height 10, standoff -4.5, extent 8.509,0.889 9.271,1.651
3D body: height 10, standoff -4.5, extent 8.509,-1.651 9.271,-0.889
3D body: height 10, standoff -4.5, extent 5.969,-1.651 6.731,-0.889
3D body: height 10, standoff -4.5, extent 5.969,0.889 6.731,1.651
3D body: height 10, standoff -4.5, extent -6.731,0.889 -5.969,1.651
3D body: height 10, standoff -4.5, extent -6.731,-1.651 -5.969,-0.889
3D body: height 10, standoff -4.5, extent -9.271,-1.651 -8.509,-0.889
3D body: height 10, standoff -4.5, extent -9.271,0.889 -8.509,1.651
3D body: height 10, standoff -4.5, extent -1.651,0.889 -0.889,1.651
3D body: height 10, standoff -4.5, extent -1.651,-1.651 -0.889,-0.889
3D body: height 10, standoff -4.5, extent -4.191,-1.651 -3.429,-0.889
3D body: height 10, standoff -4.5, extent -4.191,0.889 -3.429,1.651
3D body: height 10, standoff -4.5, extent -16.891,0.889 -16.129,1.651
3D body: height 10, standoff -4.5, extent -16.891,-1.651 -16.129,-0.889
3D body: height 10, standoff -4.5, extent -19.431,-1.651 -18.669,-0.889
3D body: height 10, standoff -4.5, extent -19.431,0.889 -18.669,1.651
3D body: height 10, standoff -4.5, extent -11.811,0.889 -11.049,1.651
3D body: height 10, standoff -4.5, extent -11.811,-1.651 -11.049,-0.889
3D body: height 10, standoff -4.5, extent -14.351,-1.651 -13.589,-0.889
3D body: height 10, standoff -4.5, extent -14.351,0.889 -13.589,1.651
3D body: height 10, standoff -4.5, extent -24.511,0.889 -23.749,1.651
3D body: height 10, standoff -4.5, extent -24.511,-1.651 -23.749,-0.889
3D body: height 10, standoff -4.5, extent -21.971,-1.651 -21.209,-0.889
3D body: height 10, standoff -4.5, extent -21.971,0.889 -21.209,1.651
3D body: height 10, standoff -4.5, extent -29.591,0.889 -28.829,1.651
3D body: height 10, standoff -4.5, extent -29.591,-1.651 -28.829,-0.889
3D body: height 10, standoff -4.5, extent -27.051,-1.651 -26.289,-0.889
3D body: height 10, standoff -4.5, extent -27.051,0.889 -26.289,1.651
3D body: height 10, standoff -4.5, extent -34.671,0.889 -33.909,1.651
3D body: height 10, standoff -4.5, extent -34.671,-1.651 -33.909,-0.889
3D body: height 10, standoff -4.5, extent -32.131,-1.651 -31.369,-0.889
3D body: height 10, standoff -4.5, extent -32.131,0.889 -31.369,1.651
3D body: height 10, standoff -4.5, extent -39.751,0.889 -38.989,1.651
3D body: height 10, standoff -4.5, extent -39.751,-1.651 -38.989,-0.889
3D body: height 10, standoff -4.5, extent -37.211,-1.651 -36.449,-0.889
3D body: height 10, standoff -4.5, extent -37.211,0.889 -36.449,1.651